# Altium footprint library Con IDC.PcbLib: 105 footprints (part 1 of 7)
Each footprint in its own frame and in the unit in brackets; x right, y up, seen from the top. Pads: shape width x height; smd on the part's side, far side on the other; paste and mask are expansions set on the pad; w line width, h text height; cw(c..) or ccw(c..) is an arc to the next point about the centre after c.
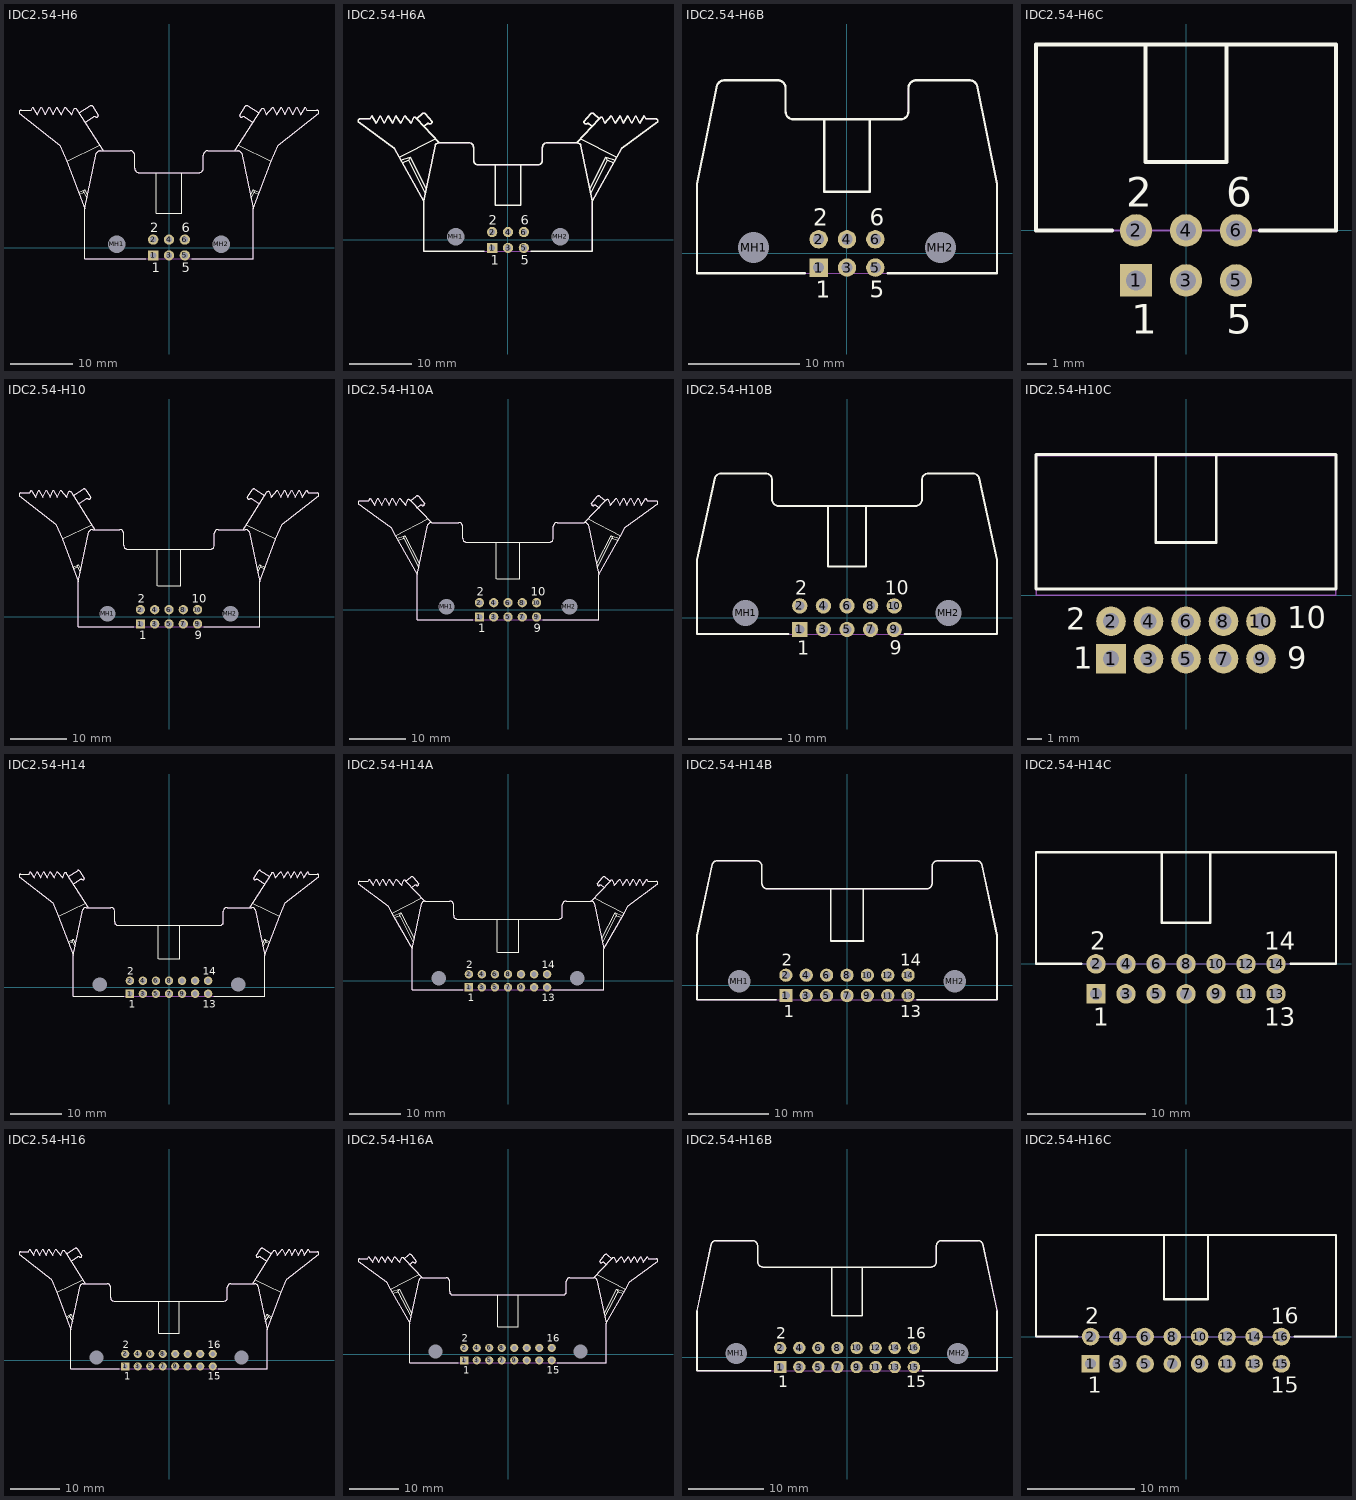
[diagram p0: the footprints below, top view; thin cyan lines are the x and y axes]

## IDC2.54-H6 [mm] "Connector; IDC, Thru-Hole; 6 Position; Right Angle; Pitch 2.54 mm; Body 27.10 x 8.5 x 25.75 mm (LxHxW), Locking levers"
height 8.5
pads (8):
  rect 1.65x1.65 hole 1: 1(-2.54,-1.27)
  round 1.65 hole 1: 2(-2.54,1.27) 3(0,-1.27) 4(0,1.27) 5(2.54,-1.27) 6(2.54,1.27)
  round 2.5 hole 2.8 unplated: MH1(-8.38,0.53) MH2(8.38,0.53)
Top Overlay:
  lines w0.2: -14.52,8.851 -13.555,9.3 ; -14.391,8.563 -13.72,8.877 ; -14.385,21.6 -12.662,22.725 cw(c-12.513,22.387) -12.247,22.644 -11.322,21.245 cw(c-11.642,21.225) -11.694,20.91 ccw(c-11.962,20.595) -12.097,20.985 ; -13.463,20.103 -12.1,20.991 ; -13.193,7.925 -13.72,8.877 ; -13.093,8.378 -13.555,9.3 ; -11.165,16.383 -16.389,13.84 ; -10.594,15.53 -14.728,22.058 ccw(c-15.051,21.956) -15.193,22.265 -15.6,21.301 -16.63,22.501 -17.26,21.301 -18.01,22.501 -18.56,21.301 -19.26,22.501 -19.88,21.301 -20.53,22.501 -21.13,21.301 -21.875,22.501 ; -3.765,-1.77 -13.55,-1.77 -13.55,6.23 ; -2.05,5.53 -2.05,12.03 ; -2.04,5.53 2.06,5.53 ; 2.05,5.534 2.05,12.03 ; 3.65,-1.77 13.55,-1.77 13.55,6.23 ; 10.594,15.53 14.728,22.058 cw(c15.051,21.956) 15.193,22.265 15.6,21.301 16.63,22.501 17.26,21.301 18.01,22.501 18.56,21.301 19.26,22.501 19.88,21.301 20.53,22.501 21.13,21.301 21.875,22.501 ; 11.165,16.383 16.389,13.84 ; 12.097,20.985 ccw(c11.962,20.595) 11.694,20.91 cw(c11.642,21.225) 11.322,21.245 12.247,22.644 cw(c12.513,22.387) 12.662,22.725 14.385,21.6 ; 12.1,20.991 13.463,20.103 ; 13.093,8.378 13.555,9.3 ; 13.193,7.925 13.72,8.877 ; 14.391,8.563 13.72,8.877 ; 14.52,8.851 13.555,9.3 ; -22.13,22.03 -21.875,22.501 ; -22.13,22.03 -21.875,22.501 ; -22.13,22.03 -23.741,22.03 ccw(c-23.741,21.69) -24.05,21.549 -17.515,16.455 -16.389,13.84 ; -16.389,13.84 -13.55,6.23 ; -13.72,8.877 -13.555,9.3 ; -13.55,6.23 -11.647,15.097 cw(c-11,14.83) -11,15.53 -6.21,15.53 cw(c-6.21,14.83) -5.51,14.83 -5.51,12.73 ccw(c-4.81,12.73) -4.81,12.03 4.81,12.03 ccw(c4.81,12.73) 5.51,12.73 5.51,14.83 cw(c6.21,14.83) 6.21,15.53 11,15.53 cw(c11,14.83) 11.647,15.097 13.55,6.23 ; 13.55,6.23 16.389,13.84 ; 13.555,9.3 13.72,8.877 ; 16.389,13.84 17.515,16.455 24.05,21.549 ccw(c23.741,21.69) 23.741,22.03 22.13,22.03 ; 21.875,22.501 22.13,22.03 ; 21.875,22.501 22.13,22.03
  text "2" at -3.04,2.47 h1.5
  text "1" at -2.79,-3.97 h1.5
  text "6" at 2.04,2.47 h1.5
  text "5" at 2.04,-3.97 h1.5
Mechanical 13:
  lines w0.1: -14.385,21.6 -12.662,22.725 cw(c-12.513,22.387) -12.247,22.644 -11.322,21.245 cw(c-11.642,21.225) -11.694,20.91 ccw(c-11.962,20.595) -12.097,20.985 ; -13.463,20.103 -12.1,20.991 ; -10.594,15.53 -14.728,22.058 ccw(c-15.051,21.956) -15.193,22.265 -15.6,21.301 -16.63,22.501 -17.26,21.301 -18.01,22.501 -18.56,21.301 -19.26,22.501 -19.88,21.301 -20.53,22.501 -21.13,21.301 -21.875,22.501 ; 10.594,15.53 14.728,22.058 cw(c15.051,21.956) 15.193,22.265 15.6,21.301 16.63,22.501 17.26,21.301 18.01,22.501 18.56,21.301 19.26,22.501 19.88,21.301 20.53,22.501 21.13,21.301 21.875,22.501 ; 12.097,20.985 ccw(c11.962,20.595) 11.694,20.91 cw(c11.642,21.225) 11.322,21.245 12.247,22.644 cw(c12.513,22.387) 12.662,22.725 14.385,21.6 ; 12.1,20.991 13.463,20.103 ; -22.13,22.03 -23.741,22.03 ccw(c-23.741,21.69) -24.05,21.549 -17.515,16.455 -16.389,13.84 -13.55,6.23 ; -22.13,22.03 -21.875,22.501 ; -22.13,22.03 -21.875,22.501 ; -13.55,6.23 -11.647,15.097 cw(c-11,14.83) -11,15.53 -6.21,15.53 cw(c-6.21,14.83) -5.51,14.83 -5.51,12.73 ccw(c-4.81,12.73) -4.81,12.03 4.81,12.03 ccw(c4.81,12.73) 5.51,12.73 5.51,14.83 cw(c6.21,14.83) 6.21,15.53 11,15.53 cw(c11,14.83) 11.647,15.097 13.55,6.23 ; -13.55,6.23 -13.55,-1.77 13.55,-1.77 13.55,6.23 ; 13.55,6.23 16.389,13.84 17.515,16.455 24.05,21.549 ccw(c23.741,21.69) 23.741,22.03 22.13,22.03 ; 21.875,22.501 22.13,22.03 ; 21.875,22.501 22.13,22.03
3D body: height 8.5, standoff 0, extent -13.451,-1.771 13.451,15.531

## IDC2.54-H6A [mm] "Connector; IDC, Thru-Hole; 6 Position; Right Angle; Pitch 2.54 mm; Body 26.90 x 8.5 x 23.30 mm (LxHxW), Locking levers"
height 8.5
pads (8):
  rect 1.65x1.65 hole 1: 1(-2.54,-1.27)
  round 1.65 hole 1: 2(-2.54,1.27) 3(0,-1.27) 4(0,1.27) 5(2.54,-1.27) 6(2.54,1.27)
  round 2.5 hole 2.8 unplated: MH1(-8.38,0.53) MH2(8.38,0.53)
Top Overlay:
  lines w0.2: -17.119,12.722 -15.631,13.218 ; -16.891,12.377 -15.873,12.716 ; -13.488,18.198 -12.923,18.617 cw(c-12.787,18.227) -12.52,18.542 ccw(c-12.467,18.857) -12.148,18.877 -13.207,20.156 ccw(c-13.473,19.899) -13.622,20.238 -14.628,19.388 ; -13.203,7.442 -15.873,12.716 ; -13.056,8.195 -15.631,13.218 ; -11.57,16.204 -17.389,13.199 ; -10.957,15.533 -14.628,19.388 ; -3.765,-1.77 -13.45,-1.77 -13.45,6.23 ; -2.05,5.53 -2.05,12.03 ; -2.04,5.53 2.06,5.53 ; 2.05,5.534 2.05,12.03 ; 3.65,-1.77 13.45,-1.77 13.45,6.23 ; 10.957,15.533 14.628,19.388 ; 11.57,16.204 17.389,13.199 ; 13.056,8.195 15.631,13.218 ; 13.203,7.442 15.873,12.716 ; 13.488,18.198 12.923,18.617 ccw(c12.787,18.227) 12.52,18.542 cw(c12.467,18.857) 12.148,18.877 13.207,20.156 cw(c13.473,19.899) 13.622,20.238 14.628,19.388 ; 16.891,12.377 15.873,12.716 ; 17.119,12.722 15.631,13.218 ; -22.03,19.359 -23.641,19.359 ccw(c-23.641,19.02) -23.95,18.879 -18.195,14.654 -17.389,13.199 ; -22.03,19.359 -21.774,19.83 ; -22.03,19.359 -21.774,19.83 ; -21.774,19.83 -21.03,18.63 -20.43,19.83 -19.78,18.63 -19.16,19.83 -18.46,18.63 -17.91,19.83 -17.16,18.63 -16.53,19.83 -15.5,18.63 -15.093,19.594 cw(c-14.951,19.285) -14.628,19.388 ; -17.389,13.199 -13.45,6.23 ; -15.873,12.716 -15.631,13.218 ; -13.45,6.23 -11.647,15.097 cw(c-11,14.83) -11,15.53 -6.21,15.53 cw(c-6.21,14.83) -5.51,14.83 -5.51,12.73 ccw(c-4.81,12.73) -4.81,12.03 4.81,12.03 ccw(c4.81,12.73) 5.51,12.73 5.51,14.83 cw(c6.21,14.83) 6.21,15.53 11,15.53 cw(c11,14.83) 11.647,15.097 13.45,6.23 ; 13.45,6.23 17.389,13.199 ; 14.628,19.388 cw(c14.951,19.285) 15.093,19.594 15.5,18.63 16.53,19.83 17.16,18.63 17.91,19.83 18.46,18.63 19.16,19.83 19.78,18.63 20.43,19.83 21.03,18.63 21.775,19.83 ; 15.631,13.218 15.873,12.716 ; 17.389,13.199 18.195,14.654 23.95,18.879 ccw(c23.641,19.02) 23.641,19.359 22.03,19.359 ; 21.775,19.83 22.03,19.359 ; 21.775,19.83 22.03,19.359
  text "2" at -3.04,2.47 h1.5
  text "1" at -2.79,-3.97 h1.5
  text "6" at 2.04,2.47 h1.5
  text "5" at 2.04,-3.97 h1.5
Mechanical 13:
  lines w0.1: -13.488,18.198 -12.923,18.617 cw(c-12.787,18.227) -12.52,18.542 ccw(c-12.467,18.857) -12.148,18.877 -13.207,20.156 ccw(c-13.473,19.899) -13.622,20.238 -14.628,19.388 ; -10.957,15.533 -14.628,19.388 ; 10.957,15.533 14.628,19.388 ; 13.488,18.198 12.923,18.617 ccw(c12.787,18.227) 12.52,18.542 cw(c12.467,18.857) 12.148,18.877 13.207,20.156 cw(c13.473,19.899) 13.622,20.238 14.628,19.388 ; -22.03,19.359 -21.774,19.83 ; -22.03,19.359 -21.774,19.83 ; -22.03,19.359 -23.641,19.359 ccw(c-23.641,19.02) -23.95,18.879 -18.195,14.654 -17.389,13.199 -13.45,6.23 ; -21.774,19.83 -21.03,18.63 -20.43,19.83 -19.78,18.63 -19.16,19.83 -18.46,18.63 -17.91,19.83 -17.16,18.63 -16.53,19.83 -15.5,18.63 -15.093,19.594 cw(c-14.951,19.285) -14.628,19.388 ; -13.45,6.23 -13.45,-1.77 13.45,-1.77 13.45,6.23 ; -13.45,6.23 -11.647,15.097 cw(c-11,14.83) -11,15.53 -6.21,15.53 cw(c-6.21,14.83) -5.51,14.83 -5.51,12.73 ccw(c-4.81,12.73) -4.81,12.03 4.81,12.03 ccw(c4.81,12.73) 5.51,12.73 5.51,14.83 cw(c6.21,14.83) 6.21,15.53 11,15.53 cw(c11,14.83) 11.647,15.097 13.45,6.23 ; 13.45,6.23 17.389,13.199 18.195,14.654 23.95,18.879 ccw(c23.641,19.02) 23.641,19.359 22.03,19.359 ; 14.628,19.388 cw(c14.951,19.285) 15.093,19.594 15.5,18.63 16.53,19.83 17.16,18.63 17.91,19.83 18.46,18.63 19.16,19.83 19.78,18.63 20.43,19.83 21.03,18.63 21.775,19.83 ; 21.775,19.83 22.03,19.359 ; 21.775,19.83 22.03,19.359
3D body: height 8.5, standoff 0, extent -13.451,-1.771 13.451,15.531

## IDC2.54-H6B [mm] "Connector; IDC, Thru-Hole; 6 Position; Right Angle; Pitch 2.54 mm; Body 26.90 x 8.5 x 17.30 mm (LxHxW), Without locking levers"
height 8.5
pads (8):
  rect 1.65x1.65 hole 1: 1(-2.54,-1.27)
  round 1.65 hole 1: 2(-2.54,1.27) 3(0,-1.27) 4(0,1.27) 5(2.54,-1.27) 6(2.54,1.27)
  round 2.5 hole 2.8 unplated: MH1(-8.38,0.53) MH2(8.38,0.53)
Top Overlay:
  lines w0.2: -3.765,-1.77 -13.45,-1.77 -13.45,6.23 -11.647,15.097 cw(c-11,14.83) -11,15.53 -6.21,15.53 cw(c-6.21,14.83) -5.51,14.83 -5.51,12.73 ccw(c-4.81,12.73) -4.81,12.03 4.81,12.03 ccw(c4.81,12.73) 5.51,12.73 5.51,14.83 cw(c6.21,14.83) 6.21,15.53 11,15.53 cw(c11,14.83) 11.647,15.097 13.45,6.23 13.45,-1.77 3.65,-1.77 ; -2.05,5.53 -2.05,12.03 ; -2.04,5.53 2.06,5.53 ; 2.05,5.534 2.05,12.03
  text "5" at 2.04,-3.97 h1.5
  text "6" at 2.04,2.47 h1.5
  text "1" at -2.79,-3.97 h1.5
  text "2" at -3.04,2.47 h1.5
Mechanical 13:
  lines w0.1: -13.45,-1.77 13.45,-1.77 13.45,6.23 11.647,15.097 ccw(c11,14.83) 11,15.53 6.21,15.53 ccw(c6.21,14.83) 5.51,14.83 5.51,12.73 cw(c4.81,12.73) 4.81,12.03 -4.81,12.03 cw(c-4.81,12.73) -5.51,12.73 -5.51,14.83 ccw(c-6.21,14.83) -6.21,15.53 -11,15.53 ccw(c-11,14.83) -11.647,15.097 -13.45,6.23 -13.45,-1.77
3D body: height 8.5, standoff 0, extent -13.451,-1.771 13.451,15.531

## IDC2.54-H6C [mm] "Connector; IDC, Low Profile Male Header, Thru-Hole; 6 Position; Right Angle; Pitch 2.54 mm; Body 15.24 x 8.9 x 9.2 mm (LxWxH)"
height 9.2
pads (6):
  rect 1.65x1.65 hole 1: 1(-2.54,-2.54)
  round 1.65 hole 1: 2(-2.54,0) 3(0,-2.54) 4(0,0) 5(2.54,-2.54) 6(2.54,0)
Top Overlay:
  lines w0.2: -3.765,0 -7.62,0 -7.62,9.45 7.62,9.45 7.62,0 3.765,0 ; -2.05,9.45 -2.05,3.48 2.05,3.48 2.05,9.45
  text "2" at -3.04,1.2 h1.5
  text "1" at -2.79,-5.24 h1.5
  text "6" at 2.04,1.2 h1.5
  text "5" at 2.04,-5.24 h1.5
Mechanical 13:
  lines w0.1: -7.62,0 7.62,0 7.62,9.45 -7.62,9.45 -7.62,0
3D body: height 9.2, standoff 0, extent -7.62,0 7.62,9.45

## IDC2.54-H10 [mm] "Connector; IDC, Thru-Hole; 10 Position; Right Angle; Pitch 2.54 mm; Body 32.30 x 8.5 x 25.75 mm (LxHxW), Locking levers"
height 8.5
pads (12):
  rect 1.65x1.65 hole 1: 1(-5.08,-1.27)
  round 1.65 hole 1: 2(-5.08,1.27) 3(-2.54,-1.27) 4(-2.54,1.27) 5(0,-1.27) 6(0,1.27) 7(2.54,-1.27) 8(2.54,1.27) 9(5.08,-1.27) 10(5.08,1.27)
  round 2.5 hole 2.8 unplated: MH1(-10.92,0.53) MH2(10.92,0.53)
Top Overlay:
  lines w0.2: -17.12,8.851 -16.155,9.3 ; -16.991,8.563 -16.32,8.877 ; -16.985,21.6 -15.262,22.725 cw(c-15.113,22.387) -14.847,22.644 -13.922,21.245 cw(c-14.242,21.225) -14.294,20.91 ccw(c-14.562,20.595) -14.697,20.985 ; -16.063,20.103 -14.7,20.991 ; -15.793,7.925 -16.32,8.877 ; -15.693,8.378 -16.155,9.3 ; -13.765,16.383 -18.989,13.84 ; -13.6,15.53 ccw(c-13.615,14.83) -14.26,15.102 -16.15,6.23 ; -13.54,15.53 -8.765,15.53 cw(c-8.765,14.83) -8.065,14.83 -8.065,12.73 ccw(c-7.365,12.73) -7.365,12.03 7.365,12.03 ccw(c7.365,12.73) 8.065,12.73 8.065,14.83 cw(c8.765,14.83) 8.765,15.53 13.54,15.53 ; -13.194,15.53 -17.328,22.058 ccw(c-17.651,21.956) -17.793,22.265 -18.2,21.301 -19.23,22.501 -19.86,21.301 -20.61,22.501 -21.16,21.301 -21.86,22.501 -22.48,21.301 -23.13,22.501 -23.73,21.301 -24.475,22.501 ; -6.305,-1.77 -16.15,-1.77 -16.15,6.23 ; -2.05,5.53 -2.05,12.03 ; -2.04,5.53 2.06,5.53 ; 2.05,5.534 2.05,12.03 ; 6.19,-1.77 16.15,-1.77 16.15,6.23 ; 13.194,15.53 17.328,22.058 cw(c17.651,21.956) 17.793,22.265 18.2,21.301 19.23,22.501 19.86,21.301 20.61,22.501 21.16,21.301 21.86,22.501 22.48,21.301 23.13,22.501 23.73,21.301 24.475,22.501 ; 13.6,15.53 cw(c13.615,14.83) 14.26,15.102 16.15,6.23 ; 13.765,16.383 18.989,13.84 ; 14.697,20.985 ccw(c14.562,20.595) 14.294,20.91 cw(c14.242,21.225) 13.922,21.245 14.847,22.644 cw(c15.113,22.387) 15.262,22.725 16.985,21.6 ; 14.7,20.991 16.063,20.103 ; 15.693,8.378 16.155,9.3 ; 15.793,7.925 16.32,8.877 ; 16.991,8.563 16.32,8.877 ; 17.12,8.851 16.155,9.3 ; -24.73,22.03 -24.475,22.501 ; -24.73,22.03 -24.475,22.501 ; -24.73,22.03 -26.341,22.03 ccw(c-26.341,21.69) -26.65,21.549 -20.115,16.455 -18.989,13.84 ; -18.989,13.84 -16.15,6.23 ; -16.32,8.877 -16.155,9.3 ; 16.15,6.23 18.989,13.84 ; 16.155,9.3 16.32,8.877 ; 18.989,13.84 20.115,16.455 26.65,21.549 ccw(c26.341,21.69) 26.341,22.03 24.73,22.03 ; 24.475,22.501 24.73,22.03 ; 24.475,22.501 24.73,22.03
  text "2" at -5.58,2.47 h1.5
  text "1" at -5.33,-3.97 h1.5
  text "10" at 4.08,2.47 h1.5
  text "9" at 4.58,-3.97 h1.5
Mechanical 13:
  lines w0.1: -16.985,21.6 -15.262,22.725 cw(c-15.113,22.387) -14.847,22.644 -13.922,21.245 cw(c-14.242,21.225) -14.294,20.91 ccw(c-14.562,20.595) -14.697,20.985 ; -16.063,20.103 -14.7,20.991 ; -13.6,15.53 ccw(c-13.615,14.83) -14.26,15.102 -16.15,6.23 ; -13.54,15.53 -8.765,15.53 cw(c-8.765,14.83) -8.065,14.83 -8.065,12.73 ccw(c-7.365,12.73) -7.365,12.03 7.365,12.03 ccw(c7.365,12.73) 8.065,12.73 8.065,14.83 cw(c8.765,14.83) 8.765,15.53 13.54,15.53 ; -13.194,15.53 -17.328,22.058 ccw(c-17.651,21.956) -17.793,22.265 -18.2,21.301 -19.23,22.501 -19.86,21.301 -20.61,22.501 -21.16,21.301 -21.86,22.501 -22.48,21.301 -23.13,22.501 -23.73,21.301 -24.475,22.501 ; 13.194,15.53 17.328,22.058 cw(c17.651,21.956) 17.793,22.265 18.2,21.301 19.23,22.501 19.86,21.301 20.61,22.501 21.16,21.301 21.86,22.501 22.48,21.301 23.13,22.501 23.73,21.301 24.475,22.501 ; 13.6,15.53 cw(c13.615,14.83) 14.26,15.102 16.15,6.23 ; 14.697,20.985 ccw(c14.562,20.595) 14.294,20.91 cw(c14.242,21.225) 13.922,21.245 14.847,22.644 cw(c15.113,22.387) 15.262,22.725 16.985,21.6 ; 14.7,20.991 16.063,20.103 ; -24.73,22.03 -24.475,22.501 ; -24.73,22.03 -26.341,22.03 ccw(c-26.341,21.69) -26.65,21.549 -20.115,16.455 -18.989,13.84 -16.15,6.23 ; -24.73,22.03 -24.475,22.501 ; -16.15,6.23 -16.15,-1.77 16.15,-1.77 16.15,6.23 ; 16.15,6.23 18.989,13.84 20.115,16.455 26.65,21.549 ccw(c26.341,21.69) 26.341,22.03 24.73,22.03 ; 24.475,22.501 24.73,22.03 ; 24.475,22.501 24.73,22.03
3D body: height 8.5, standoff 0, extent -16.151,-1.771 16.151,15.533

## IDC2.54-H10A [mm] "Connector; IDC, Thru-Hole; 10 Position; Right Angle; Pitch 2.54 mm; Body 32.30 x 8.5 x 23.30 mm (LxHxW), Locking levers"
height 8.5
pads (12):
  rect 1.65x1.65 hole 1: 1(-5.08,-1.27)
  round 1.65 hole 1: 2(-5.08,1.27) 3(-2.54,-1.27) 4(-2.54,1.27) 5(0,-1.27) 6(0,1.27) 7(2.54,-1.27) 8(2.54,1.27) 9(5.08,-1.27) 10(5.08,1.27)
  round 2.5 hole 2.8 unplated: MH1(-10.92,0.53) MH2(10.92,0.53)
Top Overlay:
  lines w0.2: -19.819,12.722 -18.331,13.218 ; -19.591,12.377 -18.573,12.716 ; -16.188,18.198 -15.623,18.617 cw(c-15.487,18.227) -15.22,18.542 ccw(c-15.167,18.857) -14.848,18.877 -15.907,20.156 ccw(c-16.173,19.899) -16.322,20.238 -17.328,19.388 ; -15.903,7.442 -18.573,12.716 ; -15.756,8.195 -18.331,13.218 ; -14.27,16.204 -20.089,13.199 ; -13.657,15.533 -17.328,19.388 ; -13.6,15.53 ccw(c-13.615,14.83) -14.26,15.102 -16.15,6.23 ; -13.54,15.53 -8.765,15.53 cw(c-8.765,14.83) -8.065,14.83 -8.065,12.73 ccw(c-7.365,12.73) -7.365,12.03 7.365,12.03 ccw(c7.365,12.73) 8.065,12.73 8.065,14.83 cw(c8.765,14.83) 8.765,15.53 13.54,15.53 ; -6.305,-1.77 -16.15,-1.77 -16.15,6.23 ; -2.05,5.53 -2.05,12.03 ; -2.04,5.53 2.06,5.53 ; 2.05,5.534 2.05,12.03 ; 6.19,-1.77 16.15,-1.77 16.15,6.23 ; 13.6,15.53 cw(c13.615,14.83) 14.26,15.102 16.15,6.23 ; 13.657,15.533 17.328,19.388 ; 14.27,16.204 20.089,13.199 ; 15.756,8.195 18.331,13.218 ; 15.903,7.442 18.573,12.716 ; 16.188,18.198 15.623,18.617 ccw(c15.487,18.227) 15.22,18.542 cw(c15.167,18.857) 14.848,18.877 15.907,20.156 cw(c16.173,19.899) 16.322,20.238 17.328,19.388 ; 19.591,12.377 18.573,12.716 ; 19.819,12.722 18.331,13.218 ; -24.73,19.359 -26.341,19.359 ccw(c-26.341,19.02) -26.65,18.879 -20.895,14.654 -20.089,13.199 ; -24.73,19.359 -24.474,19.83 ; -24.73,19.359 -24.474,19.83 ; -24.474,19.83 -23.73,18.63 -23.13,19.83 -22.48,18.63 -21.86,19.83 -21.16,18.63 -20.61,19.83 -19.86,18.63 -19.23,19.83 -18.2,18.63 -17.793,19.594 cw(c-17.651,19.285) -17.328,19.388 ; -20.089,13.199 -16.15,6.23 ; -18.573,12.716 -18.331,13.218 ; 16.15,6.23 20.089,13.199 ; 17.328,19.388 cw(c17.651,19.285) 17.793,19.594 18.2,18.63 19.23,19.83 19.86,18.63 20.61,19.83 21.16,18.63 21.86,19.83 22.48,18.63 23.13,19.83 23.73,18.63 24.474,19.83 ; 18.331,13.218 18.573,12.716 ; 20.089,13.199 20.895,14.654 26.65,18.879 ccw(c26.341,19.02) 26.341,19.359 24.73,19.359 ; 24.474,19.83 24.73,19.359 ; 24.474,19.83 24.73,19.359
  text "9" at 4.58,-3.97 h1.5
  text "10" at 4.08,2.47 h1.5
  text "1" at -5.33,-3.97 h1.5
  text "2" at -5.58,2.47 h1.5
Mechanical 13:
  lines w0.1: -16.188,18.198 -15.623,18.617 cw(c-15.487,18.227) -15.22,18.542 ccw(c-15.167,18.857) -14.848,18.877 -15.907,20.156 ccw(c-16.173,19.899) -16.322,20.238 -17.328,19.388 ; -13.657,15.533 -17.328,19.388 ; -13.6,15.53 ccw(c-13.615,14.83) -14.26,15.102 -16.15,6.23 ; -13.54,15.53 -8.765,15.53 cw(c-8.765,14.83) -8.065,14.83 -8.065,12.73 ccw(c-7.365,12.73) -7.365,12.03 7.365,12.03 ccw(c7.365,12.73) 8.065,12.73 8.065,14.83 cw(c8.765,14.83) 8.765,15.53 13.54,15.53 ; 13.6,15.53 cw(c13.615,14.83) 14.26,15.102 16.15,6.23 ; 13.657,15.533 17.328,19.388 ; 16.188,18.198 15.623,18.617 ccw(c15.487,18.227) 15.22,18.542 cw(c15.167,18.857) 14.848,18.877 15.907,20.156 cw(c16.173,19.899) 16.322,20.238 17.328,19.388 ; -24.73,19.359 -24.474,19.83 ; -24.73,19.359 -24.474,19.83 ; -24.73,19.359 -26.341,19.359 ccw(c-26.341,19.02) -26.65,18.879 -20.895,14.654 -20.089,13.199 -16.15,6.23 ; -24.474,19.83 -23.73,18.63 -23.13,19.83 -22.48,18.63 -21.86,19.83 -21.16,18.63 -20.61,19.83 -19.86,18.63 -19.23,19.83 -18.2,18.63 -17.793,19.594 cw(c-17.651,19.285) -17.328,19.388 ; -16.15,6.23 -16.15,-1.77 16.15,-1.77 16.15,6.23 ; 16.15,6.23 20.089,13.199 20.895,14.654 26.65,18.879 ccw(c26.341,19.02) 26.341,19.359 24.73,19.359 ; 17.328,19.388 cw(c17.651,19.285) 17.793,19.594 18.2,18.63 19.23,19.83 19.86,18.63 20.61,19.83 21.16,18.63 21.86,19.83 22.48,18.63 23.13,19.83 23.73,18.63 24.474,19.83 ; 24.474,19.83 24.73,19.359 ; 24.474,19.83 24.73,19.359

## IDC2.54-H10B [mm] "Connector; IDC, Thru-Hole; 10 Position; Right Angle; Pitch 2.54 mm; Body 32.30 x 8.5 x 17.30 mm (LxHxW), Without locking levers"
height 8.5
pads (12):
  rect 1.65x1.65 hole 1: 1(-5.08,-1.27)
  round 1.65 hole 1: 2(-5.08,1.27) 3(-2.54,-1.27) 4(-2.54,1.27) 5(0,-1.27) 6(0,1.27) 7(2.54,-1.27) 8(2.54,1.27) 9(5.08,-1.27) 10(5.08,1.27)
  round 2.5 hole 2.8 unplated: MH1(-10.92,0.53) MH2(10.92,0.53)
Top Overlay:
  lines w0.2: -6.305,-1.77 -16.15,-1.77 -16.15,6.23 -14.2,15.102 cw(c-13.555,14.83) -13.54,15.53 -8.765,15.53 cw(c-8.765,14.83) -8.065,14.83 -8.065,12.73 ccw(c-7.365,12.73) -7.365,12.03 7.365,12.03 ccw(c7.365,12.73) 8.065,12.73 8.065,14.83 cw(c8.765,14.83) 8.765,15.53 13.54,15.53 cw(c13.555,14.83) 14.2,15.102 16.15,6.23 16.15,-1.77 6.19,-1.77 ; -2.05,5.53 -2.05,12.03 ; -2.04,5.53 2.06,5.53 ; 2.05,5.534 2.05,12.03
  text "2" at -5.58,2.47 h1.5
  text "1" at -5.33,-3.97 h1.5
  text "10" at 4.08,2.47 h1.5
  text "9" at 4.58,-3.97 h1.5
Mechanical 13:
  lines w0.1: -16.15,-1.77 -16.15,6.23 -14.2,15.102 cw(c-13.555,14.83) -13.54,15.53 -8.765,15.53 cw(c-8.765,14.83) -8.065,14.83 -8.065,12.73 ccw(c-7.365,12.73) -7.365,12.03 7.365,12.03 ccw(c7.365,12.73) 8.065,12.73 8.065,14.83 cw(c8.765,14.83) 8.765,15.53 13.54,15.53 cw(c13.555,14.83) 14.2,15.102 16.15,6.23 16.15,-1.77 -16.15,-1.77

## IDC2.54-H10C [mm] "Connector; IDC, Low Profile Male Header, Thru-Hole; 10 Position; Right Angle; Pitch 2.54 mm; Body 20.32 x 8.9 x 9.2 mm (LxWxH)"
height 9.2
pads (10):
  rect 2x2 hole 1.1: 1(-5.08,-4.318)
  round 2 hole 1.1: 2(-5.08,-1.778) 3(-2.54,-4.318) 4(-2.54,-1.778) 5(0,-4.318) 6(0,-1.778) 7(2.54,-4.318) 8(2.54,-1.778) 9(5.08,-4.318) 10(5.08,-1.778)
Top Overlay:
  lines w0.2: -2.05,9.526 -2.05,3.556 2.05,3.556 2.05,9.526 ; -10.16,0.406 10.16,0.406 10.16,9.526 -10.16,9.526 -10.16,0.406
  text "9" at 6.866,-4.986 h1.5
  text "10" at 6.866,-2.261 h1.5
  text "1" at -7.624,-4.986 h1.5
  text "2" at -8.124,-2.356 h1.5
Mechanical 13:
  lines w0.1: -10.16,0 10.16,0 10.16,9.45 -10.16,9.45 -10.16,0
3D body "header_awhw10a-0202-t.STEP": height 9, standoff -3.13, extent -10.16,-4.625 10.16,9.559
3D body "sockets_awp10-7241t.STEP": height 9.1, standoff -0.72, extent -8.7,2.906 8.7,134.499

## IDC2.54-H14 [mm] "Connector; IDC, Thru-Hole; 14 Position; Right Angle; Pitch 2.54 mm; Body 37.40 x 8.5 x 25.75 mm (LxHxW), Locking levers"
height 8.5
pads (16):
  rect 1.65x1.65 hole 1: 1(-7.62,-1.27)
  round 1.65 hole 1: 2(-7.62,1.27) 3(-5.08,-1.27) 4(-5.08,1.27) 5(-2.54,-1.27) 6(-2.54,1.27) 7(0,-1.27) 8(0,1.27) 9(2.54,-1.27) 10(2.54,1.27) 11(5.08,-1.27) 12(5.08,1.27) 13(7.62,-1.27) 14(7.62,1.27)
  round 2.5 hole 2.8 unplated: MH1(-13.46,0.53) MH2(13.46,0.53)
Top Overlay:
  lines w0.2: -19.67,8.851 -18.705,9.3 ; -19.541,8.563 -18.87,8.877 ; -19.535,21.6 -17.812,22.725 cw(c-17.663,22.387) -17.397,22.644 -16.472,21.245 cw(c-16.792,21.225) -16.844,20.91 ccw(c-17.112,20.595) -17.247,20.985 ; -18.613,20.103 -17.25,20.991 ; -18.343,7.925 -18.87,8.877 ; -18.243,8.378 -18.705,9.3 ; -16.315,16.383 -21.539,13.84 ; -15.744,15.53 -19.878,22.058 ccw(c-20.201,21.956) -20.343,22.265 -20.75,21.301 -21.78,22.501 -22.41,21.301 -23.16,22.501 -23.71,21.301 -24.41,22.501 -25.03,21.301 -25.68,22.501 -26.28,21.301 -27.025,22.501 ; -8.845,-1.77 -18.7,-1.77 -18.7,6.23 ; -2.05,5.53 -2.05,12.03 ; -2.04,5.53 2.06,5.53 ; 2.05,5.534 2.05,12.03 ; 8.73,-1.77 18.7,-1.77 18.7,6.23 ; 15.744,15.53 19.878,22.058 cw(c20.201,21.956) 20.343,22.265 20.75,21.301 21.78,22.501 22.41,21.301 23.16,22.501 23.71,21.301 24.41,22.501 25.03,21.301 25.68,22.501 26.28,21.301 27.025,22.501 ; 16.315,16.383 21.539,13.84 ; 17.247,20.985 ccw(c17.112,20.595) 16.844,20.91 cw(c16.792,21.225) 16.472,21.245 17.397,22.644 cw(c17.663,22.387) 17.812,22.725 19.535,21.6 ; 17.25,20.991 18.613,20.103 ; 18.243,8.378 18.705,9.3 ; 18.343,7.925 18.87,8.877 ; 19.541,8.563 18.87,8.877 ; 19.67,8.851 18.705,9.3 ; -27.28,22.03 -27.025,22.501 ; -27.28,22.03 -27.025,22.501 ; -27.28,22.03 -28.891,22.03 ccw(c-28.891,21.69) -29.2,21.549 -22.665,16.455 -21.539,13.84 ; -21.539,13.84 -18.7,6.23 ; -18.87,8.877 -18.705,9.3 ; -18.7,6.23 -16.81,15.102 cw(c-16.165,14.83) -16.15,15.53 -11.305,15.53 cw(c-11.305,14.83) -10.605,14.83 -10.605,12.73 ccw(c-9.905,12.73) -9.905,12.03 9.905,12.03 ccw(c9.905,12.73) 10.605,12.73 10.605,14.83 cw(c11.305,14.83) 11.305,15.53 16.15,15.53 cw(c16.165,14.83) 16.81,15.102 18.7,6.23 ; 18.7,6.23 21.539,13.84 ; 18.705,9.3 18.87,8.877 ; 21.539,13.84 22.665,16.455 29.2,21.549 ccw(c28.891,21.69) 28.891,22.03 27.28,22.03 ; 27.025,22.501 27.28,22.03 ; 27.025,22.501 27.28,22.03
  text "13" at 6.62,-3.97 h1.5
  text "14" at 6.62,2.47 h1.5
  text "1" at -7.87,-3.97 h1.5
  text "2" at -8.12,2.47 h1.5
Mechanical 13:
  lines w0.1: -19.535,21.6 -17.812,22.725 cw(c-17.663,22.387) -17.397,22.644 -16.472,21.245 cw(c-16.792,21.225) -16.844,20.91 ccw(c-17.112,20.595) -17.247,20.985 ; -18.613,20.103 -17.25,20.991 ; -15.744,15.53 -19.878,22.058 ccw(c-20.201,21.956) -20.343,22.265 -20.75,21.301 -21.78,22.501 -22.41,21.301 -23.16,22.501 -23.71,21.301 -24.41,22.501 -25.03,21.301 -25.68,22.501 -26.28,21.301 -27.025,22.501 ; 15.744,15.53 19.878,22.058 cw(c20.201,21.956) 20.343,22.265 20.75,21.301 21.78,22.501 22.41,21.301 23.16,22.501 23.71,21.301 24.41,22.501 25.03,21.301 25.68,22.501 26.28,21.301 27.025,22.501 ; 17.247,20.985 ccw(c17.112,20.595) 16.844,20.91 cw(c16.792,21.225) 16.472,21.245 17.397,22.644 cw(c17.663,22.387) 17.812,22.725 19.535,21.6 ; 17.25,20.991 18.613,20.103 ; -27.28,22.03 -27.025,22.501 ; -27.28,22.03 -27.025,22.501 ; -27.28,22.03 -28.891,22.03 ccw(c-28.891,21.69) -29.2,21.549 -22.665,16.455 -21.539,13.84 -18.7,6.23 ; -18.7,6.23 -18.7,-1.77 18.7,-1.77 18.7,6.23 ; -18.7,6.23 -16.81,15.102 cw(c-16.165,14.83) -16.15,15.53 -11.305,15.53 cw(c-11.305,14.83) -10.605,14.83 -10.605,12.73 ccw(c-9.905,12.73) -9.905,12.03 9.905,12.03 ccw(c9.905,12.73) 10.605,12.73 10.605,14.83 cw(c11.305,14.83) 11.305,15.53 16.15,15.53 cw(c16.165,14.83) 16.81,15.102 18.7,6.23 ; 18.7,6.23 21.539,13.84 22.665,16.455 29.2,21.549 ccw(c28.891,21.69) 28.891,22.03 27.28,22.03 ; 27.025,22.501 27.28,22.03 ; 27.025,22.501 27.28,22.03
3D body: height 8.5, standoff 0, extent -18.701,-1.771 18.701,15.533

## IDC2.54-H14A [mm] "Connector; IDC, Thru-Hole; 14 Position; Right Angle; Pitch 2.54 mm; Body 37.40 x 8.5 x 23.30 mm (LxHxW), Locking levers"
height 8.5
pads (16):
  rect 1.65x1.65 hole 1: 1(-7.62,-1.27)
  round 1.65 hole 1: 2(-7.62,1.27) 3(-5.08,-1.27) 4(-5.08,1.27) 5(-2.54,-1.27) 6(-2.54,1.27) 7(0,-1.27) 8(0,1.27) 9(2.54,-1.27) 10(2.54,1.27) 11(5.08,-1.27) 12(5.08,1.27) 13(7.62,-1.27) 14(7.62,1.27)
  round 2.5 hole 2.8 unplated: MH1(-13.46,0.53) MH2(13.46,0.53)
Top Overlay:
  lines w0.2: -22.369,12.722 -20.881,13.218 ; -22.141,12.377 -21.123,12.716 ; -18.738,18.198 -18.173,18.617 cw(c-18.037,18.227) -17.77,18.542 ccw(c-17.717,18.857) -17.398,18.877 -18.457,20.156 ccw(c-18.723,19.899) -18.872,20.238 -19.878,19.388 ; -18.453,7.442 -21.123,12.716 ; -18.306,8.195 -20.881,13.218 ; -16.82,16.204 -22.639,13.199 ; -16.207,15.533 -19.878,19.388 ; -8.845,-1.77 -18.7,-1.77 -18.7,6.23 ; -2.05,5.53 -2.05,12.03 ; -2.04,5.53 2.06,5.53 ; 2.05,5.534 2.05,12.03 ; 8.73,-1.77 18.7,-1.77 18.7,6.23 ; 16.207,15.533 19.878,19.388 ; 16.82,16.204 22.639,13.199 ; 18.306,8.195 20.881,13.218 ; 18.453,7.442 21.123,12.716 ; 18.738,18.198 18.173,18.617 ccw(c18.037,18.227) 17.77,18.542 cw(c17.717,18.857) 17.398,18.877 18.457,20.156 cw(c18.723,19.899) 18.872,20.238 19.878,19.388 ; 22.141,12.377 21.123,12.716 ; 22.369,12.722 20.881,13.218 ; -27.28,19.359 -27.024,19.83 ; -27.28,19.359 -27.024,19.83 ; -27.28,19.359 -28.891,19.359 ccw(c-28.891,19.02) -29.2,18.879 -23.445,14.654 -22.639,13.199 ; -27.024,19.83 -26.28,18.63 -25.68,19.83 -25.03,18.63 -24.41,19.83 -23.71,18.63 -23.16,19.83 -22.41,18.63 -21.78,19.83 -20.75,18.63 -20.343,19.594 cw(c-20.201,19.285) -19.878,19.388 ; -22.639,13.199 -18.7,6.23 ; -21.123,12.716 -20.881,13.218 ; -18.7,6.23 -16.81,15.102 cw(c-16.165,14.83) -16.15,15.53 -11.305,15.53 cw(c-11.305,14.83) -10.605,14.83 -10.605,12.73 ccw(c-9.905,12.73) -9.905,12.03 9.905,12.03 ccw(c9.905,12.73) 10.605,12.73 10.605,14.83 cw(c11.305,14.83) 11.305,15.53 16.15,15.53 cw(c16.165,14.83) 16.81,15.102 18.7,6.23 ; 18.7,6.23 22.639,13.199 ; 19.878,19.388 cw(c20.201,19.285) 20.343,19.594 20.75,18.63 21.78,19.83 22.41,18.63 23.16,19.83 23.71,18.63 24.41,19.83 25.03,18.63 25.68,19.83 26.28,18.63 27.024,19.83 ; 20.881,13.218 21.123,12.716 ; 22.639,13.199 23.445,14.654 29.2,18.879 ccw(c28.891,19.02) 28.891,19.359 27.28,19.359 ; 27.024,19.83 27.28,19.359 ; 27.024,19.83 27.28,19.359
  text "2" at -8.12,2.47 h1.5
  text "1" at -7.87,-3.97 h1.5
  text "14" at 6.62,2.47 h1.5
  text "13" at 6.62,-3.97 h1.5
Mechanical 13:
  lines w0.1: -18.738,18.198 -18.173,18.617 cw(c-18.037,18.227) -17.77,18.542 ccw(c-17.717,18.857) -17.398,18.877 -18.457,20.156 ccw(c-18.723,19.899) -18.872,20.238 -19.878,19.388 ; -16.207,15.533 -19.878,19.388 ; 16.207,15.533 19.878,19.388 ; 18.738,18.198 18.173,18.617 ccw(c18.037,18.227) 17.77,18.542 cw(c17.717,18.857) 17.398,18.877 18.457,20.156 cw(c18.723,19.899) 18.872,20.238 19.878,19.388 ; -27.28,19.359 -27.024,19.83 ; -27.28,19.359 -28.891,19.359 ccw(c-28.891,19.02) -29.2,18.879 -23.445,14.654 -22.639,13.199 -18.7,6.23 ; -27.28,19.359 -27.024,19.83 ; -27.024,19.83 -26.28,18.63 -25.68,19.83 -25.03,18.63 -24.41,19.83 -23.71,18.63 -23.16,19.83 -22.41,18.63 -21.78,19.83 -20.75,18.63 -20.343,19.594 cw(c-20.201,19.285) -19.878,19.388 ; -18.7,6.23 -18.7,-1.77 18.7,-1.77 18.7,6.23 ; -18.7,6.23 -16.81,15.102 cw(c-16.165,14.83) -16.15,15.53 -11.305,15.53 cw(c-11.305,14.83) -10.605,14.83 -10.605,12.73 ccw(c-9.905,12.73) -9.905,12.03 9.905,12.03 ccw(c9.905,12.73) 10.605,12.73 10.605,14.83 cw(c11.305,14.83) 11.305,15.53 16.15,15.53 cw(c16.165,14.83) 16.81,15.102 18.7,6.23 ; 18.7,6.23 22.639,13.199 23.445,14.654 29.2,18.879 ccw(c28.891,19.02) 28.891,19.359 27.28,19.359 ; 19.878,19.388 cw(c20.201,19.285) 20.343,19.594 20.75,18.63 21.78,19.83 22.41,18.63 23.16,19.83 23.71,18.63 24.41,19.83 25.03,18.63 25.68,19.83 26.28,18.63 27.024,19.83 ; 27.024,19.83 27.28,19.359 ; 27.024,19.83 27.28,19.359
3D body: height 8.5, standoff 0, extent -18.701,-1.771 18.701,15.533

## IDC2.54-H14B [mm] "Connector; IDC, Thru-Hole; 14 Position; Right Angle; Pitch 2.54 mm; Body 37.40 x 8.5 x 17.30 mm (LxHxW), Without locking levers"
height 8.5
pads (16):
  rect 1.65x1.65 hole 1: 1(-7.62,-1.27)
  round 1.65 hole 1: 2(-7.62,1.27) 3(-5.08,-1.27) 4(-5.08,1.27) 5(-2.54,-1.27) 6(-2.54,1.27) 7(0,-1.27) 8(0,1.27) 9(2.54,-1.27) 10(2.54,1.27) 11(5.08,-1.27) 12(5.08,1.27) 13(7.62,-1.27) 14(7.62,1.27)
  round 2.5 hole 2.8 unplated: MH1(-13.46,0.53) MH2(13.46,0.53)
Top Overlay:
  lines w0.2: -8.845,-1.77 -18.7,-1.77 -18.7,6.23 -16.81,15.102 cw(c-16.165,14.83) -16.15,15.53 -11.305,15.53 cw(c-11.305,14.83) -10.605,14.83 -10.605,12.73 ccw(c-9.905,12.73) -9.905,12.03 9.905,12.03 ccw(c9.905,12.73) 10.605,12.73 10.605,14.83 cw(c11.305,14.83) 11.305,15.53 16.15,15.53 cw(c16.165,14.83) 16.81,15.102 18.7,6.23 18.7,-1.77 8.73,-1.77 ; -2.05,5.53 -2.05,12.03 ; -2.04,5.53 2.06,5.53 ; 2.05,5.534 2.05,12.03
  text "13" at 6.62,-3.97 h1.5
  text "14" at 6.62,2.47 h1.5
  text "1" at -7.87,-3.97 h1.5
  text "2" at -8.12,2.47 h1.5
Mechanical 13:
  lines w0.1: -18.7,-1.77 -18.7,6.23 -16.81,15.102 cw(c-16.165,14.83) -16.15,15.53 -11.305,15.53 cw(c-11.305,14.83) -10.605,14.83 -10.605,12.73 ccw(c-9.905,12.73) -9.905,12.03 9.905,12.03 ccw(c9.905,12.73) 10.605,12.73 10.605,14.83 cw(c11.305,14.83) 11.305,15.53 16.15,15.53 cw(c16.165,14.83) 16.81,15.102 18.7,6.23 18.7,-1.77 -18.7,-1.77
3D body: height 8.5, standoff 0, extent -18.701,-1.771 18.701,15.533

## IDC2.54-H14C [mm] "Connector; IDC, Low Profile Male Header, Thru-Hole; 14 Position; Right Angle; Pitch 2.54 mm; Body 25.40 x 8.9 x 9.2 mm (LxWxH)"
height 9.2
pads (14):
  rect 1.65x1.65 hole 1: 1(-7.62,-2.54)
  round 1.65 hole 1: 2(-7.62,0) 3(-5.08,-2.54) 4(-5.08,0) 5(-2.54,-2.54) 6(-2.54,0) 7(0,-2.54) 8(0,0) 9(2.54,-2.54) 10(2.54,0) 11(5.08,-2.54) 12(5.08,0) 13(7.62,-2.54) 14(7.62,0)
Top Overlay:
  lines w0.2: -8.845,0 -12.7,0 -12.7,9.45 12.7,9.45 12.7,0 8.845,0 ; -2.05,9.45 -2.05,3.48 2.05,3.48 2.05,9.45
  text "13" at 6.62,-5.24 h1.5
  text "14" at 6.62,1.2 h1.5
  text "1" at -7.87,-5.24 h1.5
  text "2" at -8.12,1.2 h1.5
Mechanical 13:
  lines w0.1: -12.7,0 12.7,0 12.7,9.45 -12.7,9.45 -12.7,0
3D body: height 9.2, standoff 0, extent -12.7,0 12.7,9.45

## IDC2.54-H16 [mm] "Connector; IDC, Thru-Hole; 16 Position; Right Angle; Pitch 2.54 mm; Body 39.90 x 8.5 x 25.75 mm (LxHxW), Locking levers"
height 8.5
pads (18):
  rect 1.65x1.65 hole 1: 1(-8.89,-1.27)
  round 1.65 hole 1: 2(-8.89,1.27) 3(-6.35,-1.27) 4(-6.35,1.27) 5(-3.81,-1.27) 6(-3.81,1.27) 7(-1.27,-1.27) 8(-1.27,1.27) 9(1.27,-1.27) 10(1.27,1.27) 11(3.81,-1.27) 12(3.81,1.27) 13(6.35,-1.27) 14(6.35,1.27) 15(8.89,-1.27) 16(8.89,1.27)
  round 2.5 hole 2.8 unplated: MH1(-14.73,0.53) MH2(14.73,0.53)
Top Overlay:
  lines w0.2: -20.92,8.851 -19.955,9.3 ; -20.791,8.563 -20.12,8.877 ; -20.785,21.6 -19.062,22.725 cw(c-18.913,22.387) -18.647,22.644 -17.722,21.245 cw(c-18.042,21.225) -18.094,20.91 ccw(c-18.362,20.595) -18.497,20.985 ; -19.863,20.103 -18.5,20.991 ; -19.593,7.925 -20.12,8.877 ; -19.493,8.378 -19.955,9.3 ; -17.565,16.383 -22.789,13.84 ; -16.994,15.53 -21.128,22.058 ccw(c-21.451,21.956) -21.593,22.265 -22,21.301 -23.03,22.501 -23.66,21.301 -24.41,22.501 -24.96,21.301 -25.66,22.501 -26.28,21.301 -26.93,22.501 -27.53,21.301 -28.275,22.501 ; -10.115,-1.77 -19.95,-1.77 -19.95,6.23 ; -2.05,5.53 -2.05,12.03 ; -2.04,5.53 2.06,5.53 ; 2.05,5.534 2.05,12.03 ; 10,-1.77 19.95,-1.77 19.95,6.23 ; 16.994,15.53 21.128,22.058 cw(c21.451,21.956) 21.593,22.265 22,21.301 23.03,22.501 23.66,21.301 24.41,22.501 24.96,21.301 25.66,22.501 26.28,21.301 26.93,22.501 27.53,21.301 28.275,22.501 ; 17.565,16.383 22.789,13.84 ; 18.497,20.985 ccw(c18.362,20.595) 18.094,20.91 cw(c18.042,21.225) 17.722,21.245 18.647,22.644 cw(c18.913,22.387) 19.062,22.725 20.785,21.6 ; 18.5,20.991 19.863,20.103 ; 19.493,8.378 19.955,9.3 ; 19.593,7.925 20.12,8.877 ; 20.791,8.563 20.12,8.877 ; 20.92,8.851 19.955,9.3 ; -28.53,22.03 -30.141,22.03 ccw(c-30.141,21.69) -30.45,21.549 -23.915,16.455 -22.789,13.84 ; -28.53,22.03 -28.275,22.501 ; -28.53,22.03 -28.275,22.501 ; -22.789,13.84 -19.95,6.23 ; -20.12,8.877 -19.955,9.3 ; -19.95,6.23 -18.06,15.102 cw(c-17.415,14.83) -17.4,15.53 -12.575,15.53 cw(c-12.575,14.83) -11.875,14.83 -11.875,12.73 ccw(c-11.175,12.73) -11.175,12.03 11.175,12.03 ccw(c11.175,12.73) 11.875,12.73 11.875,14.83 cw(c12.575,14.83) 12.575,15.53 17.4,15.53 cw(c17.415,14.83) 18.06,15.102 19.95,6.23 ; 19.95,6.23 22.789,13.84 ; 19.955,9.3 20.12,8.877 ; 22.789,13.84 23.915,16.455 30.45,21.549 ccw(c30.141,21.69) 30.141,22.03 28.53,22.03 ; 28.275,22.501 28.53,22.03 ; 28.275,22.501 28.53,22.03
  text "2" at -9.39,2.47 h1.5
  text "1" at -9.14,-3.97 h1.5
  text "16" at 7.89,2.47 h1.5
  text "15" at 7.89,-3.97 h1.5
Mechanical 13:
  lines w0.1: -20.785,21.6 -19.062,22.725 cw(c-18.913,22.387) -18.647,22.644 -17.722,21.245 cw(c-18.042,21.225) -18.094,20.91 ccw(c-18.362,20.595) -18.497,20.985 ; -19.863,20.103 -18.5,20.991 ; -16.994,15.53 -21.128,22.058 ccw(c-21.451,21.956) -21.593,22.265 -22,21.301 -23.03,22.501 -23.66,21.301 -24.41,22.501 -24.96,21.301 -25.66,22.501 -26.28,21.301 -26.93,22.501 -27.53,21.301 -28.275,22.501 ; 16.994,15.53 21.128,22.058 cw(c21.451,21.956) 21.593,22.265 22,21.301 23.03,22.501 23.66,21.301 24.41,22.501 24.96,21.301 25.66,22.501 26.28,21.301 26.93,22.501 27.53,21.301 28.275,22.501 ; 18.497,20.985 ccw(c18.362,20.595) 18.094,20.91 cw(c18.042,21.225) 17.722,21.245 18.647,22.644 cw(c18.913,22.387) 19.062,22.725 20.785,21.6 ; 18.5,20.991 19.863,20.103 ; -28.53,22.03 -28.275,22.501 ; -28.53,22.03 -28.275,22.501 ; -28.53,22.03 -30.141,22.03 ccw(c-30.141,21.69) -30.45,21.549 -23.915,16.455 -22.789,13.84 -19.95,6.23 ; -19.95,6.23 -18.06,15.102 cw(c-17.415,14.83) -17.4,15.53 -12.575,15.53 cw(c-12.575,14.83) -11.875,14.83 -11.875,12.73 ccw(c-11.175,12.73) -11.175,12.03 11.175,12.03 ccw(c11.175,12.73) 11.875,12.73 11.875,14.83 cw(c12.575,14.83) 12.575,15.53 17.4,15.53 cw(c17.415,14.83) 18.06,15.102 19.95,6.23 ; -19.95,6.23 -19.95,-1.77 19.95,-1.77 19.95,6.23 ; 19.95,6.23 22.789,13.84 23.915,16.455 30.45,21.549 ccw(c30.141,21.69) 30.141,22.03 28.53,22.03 ; 28.275,22.501 28.53,22.03 ; 28.275,22.501 28.53,22.03
3D body: height 8.5, standoff 0, extent -19.951,-1.771 19.951,15.533

## IDC2.54-H16A [mm] "Connector; IDC, Thru-Hole; 16 Position; Right Angle; Pitch 2.54 mm; Body 39.90 x 8.5 x 23.30 mm (LxHxW), Locking levers"
height 8.5
pads (18):
  rect 1.65x1.65 hole 1: 1(-8.89,-1.27)
  round 1.65 hole 1: 2(-8.89,1.27) 3(-6.35,-1.27) 4(-6.35,1.27) 5(-3.81,-1.27) 6(-3.81,1.27) 7(-1.27,-1.27) 8(-1.27,1.27) 9(1.27,-1.27) 10(1.27,1.27) 11(3.81,-1.27) 12(3.81,1.27) 13(6.35,-1.27) 14(6.35,1.27) 15(8.89,-1.27) 16(8.89,1.27)
  round 2.5 hole 2.8 unplated: MH1(-14.73,0.53) MH2(14.73,0.53)
Top Overlay:
  lines w0.2: -23.619,12.722 -22.131,13.218 ; -23.391,12.377 -22.373,12.716 ; -19.988,18.198 -19.423,18.617 cw(c-19.287,18.227) -19.02,18.542 ccw(c-18.967,18.857) -18.648,18.877 -19.707,20.156 ccw(c-19.973,19.899) -20.122,20.238 -21.128,19.388 ; -19.703,7.442 -22.373,12.716 ; -19.556,8.195 -22.131,13.218 ; -18.07,16.204 -23.889,13.199 ; -17.46,15.53 -12.575,15.53 cw(c-12.575,14.83) -11.875,14.83 -11.875,12.73 ccw(c-11.175,12.73) -11.175,12.03 11.175,12.03 ccw(c11.175,12.73) 11.875,12.73 11.875,14.83 cw(c12.575,14.83) 12.575,15.53 17.46,15.53 ; -17.457,15.533 -21.128,19.388 ; -17.4,15.53 ccw(c-17.415,14.83) -18.06,15.102 -19.95,6.23 ; -10.115,-1.77 -19.95,-1.77 -19.95,6.23 ; -2.05,5.53 -2.05,12.03 ; -2.04,5.53 2.06,5.53 ; 2.05,5.534 2.05,12.03 ; 10,-1.77 19.95,-1.77 19.95,6.23 ; 17.4,15.53 cw(c17.415,14.83) 18.06,15.102 19.95,6.23 ; 17.457,15.533 21.128,19.388 ; 18.07,16.204 23.889,13.199 ; 19.556,8.195 22.131,13.218 ; 19.703,7.442 22.373,12.716 ; 19.988,18.198 19.423,18.617 ccw(c19.287,18.227) 19.02,18.542 cw(c18.967,18.857) 18.648,18.877 19.707,20.156 cw(c19.973,19.899) 20.122,20.238 21.128,19.388 ; 23.391,12.377 22.373,12.716 ; 23.619,12.722 22.131,13.218 ; -28.53,19.359 -30.141,19.359 ccw(c-30.141,19.02) -30.45,18.879 -24.695,14.654 -23.889,13.199 ; -28.53,19.359 -28.274,19.83 ; -28.53,19.359 -28.274,19.83 ; -28.274,19.83 -27.53,18.63 -26.93,19.83 -26.28,18.63 -25.66,19.83 -24.96,18.63 -24.41,19.83 -23.66,18.63 -23.03,19.83 -22,18.63 -21.593,19.594 cw(c-21.451,19.285) -21.128,19.388 ; -23.889,13.199 -19.95,6.23 ; -22.373,12.716 -22.131,13.218 ; 19.95,6.23 23.889,13.199 ; 21.128,19.388 cw(c21.451,19.285) 21.593,19.594 22,18.63 23.03,19.83 23.66,18.63 24.41,19.83 24.96,18.63 25.66,19.83 26.28,18.63 26.93,19.83 27.53,18.63 28.274,19.83 ; 22.131,13.218 22.373,12.716 ; 23.889,13.199 24.695,14.654 30.45,18.879 ccw(c30.141,19.02) 30.141,19.359 28.53,19.359 ; 28.274,19.83 28.53,19.359 ; 28.274,19.83 28.53,19.359
  text "15" at 7.89,-3.97 h1.5
  text "16" at 7.89,2.47 h1.5
  text "1" at -9.14,-3.97 h1.5
  text "2" at -9.39,2.47 h1.5
Mechanical 13:
  lines w0.1: -19.988,18.198 -19.423,18.617 cw(c-19.287,18.227) -19.02,18.542 ccw(c-18.967,18.857) -18.648,18.877 -19.707,20.156 ccw(c-19.973,19.899) -20.122,20.238 -21.128,19.388 ; -17.46,15.53 -12.575,15.53 cw(c-12.575,14.83) -11.875,14.83 -11.875,12.73 ccw(c-11.175,12.73) -11.175,12.03 11.175,12.03 ccw(c11.175,12.73) 11.875,12.73 11.875,14.83 cw(c12.575,14.83) 12.575,15.53 17.46,15.53 ; -17.457,15.533 -21.128,19.388 ; -17.4,15.53 ccw(c-17.415,14.83) -18.06,15.102 -19.95,6.23 ; 17.4,15.53 cw(c17.415,14.83) 18.06,15.102 19.95,6.23 ; 17.457,15.533 21.128,19.388 ; 19.988,18.198 19.423,18.617 ccw(c19.287,18.227) 19.02,18.542 cw(c18.967,18.857) 18.648,18.877 19.707,20.156 cw(c19.973,19.899) 20.122,20.238 21.128,19.388 ; -28.53,19.359 -30.141,19.359 ccw(c-30.141,19.02) -30.45,18.879 -24.695,14.654 -23.889,13.199 -19.95,6.23 ; -28.53,19.359 -28.274,19.83 ; -28.53,19.359 -28.274,19.83 ; -28.274,19.83 -27.53,18.63 -26.93,19.83 -26.28,18.63 -25.66,19.83 -24.96,18.63 -24.41,19.83 -23.66,18.63 -23.03,19.83 -22,18.63 -21.593,19.594 cw(c-21.451,19.285) -21.128,19.388 ; -19.95,6.23 -19.95,-1.77 19.95,-1.77 19.95,6.23 ; 19.95,6.23 23.889,13.199 24.695,14.654 30.45,18.879 ccw(c30.141,19.02) 30.141,19.359 28.53,19.359 ; 21.128,19.388 cw(c21.451,19.285) 21.593,19.594 22,18.63 23.03,19.83 23.66,18.63 24.41,19.83 24.96,18.63 25.66,19.83 26.28,18.63 26.93,19.83 27.53,18.63 28.274,19.83 ; 28.274,19.83 28.53,19.359 ; 28.274,19.83 28.53,19.359
3D body: height 8.5, standoff 0, extent -19.951,-1.771 19.951,15.533

## IDC2.54-H16B [mm] "Connector; IDC, Thru-Hole; 16 Position; Right Angle; Pitch 2.54 mm; Body 39.90 x 8.5 x 17.30 mm (LxHxW), Without locking levers"
height 8.5
pads (18):
  rect 1.65x1.65 hole 1: 1(-8.89,-1.27)
  round 1.65 hole 1: 2(-8.89,1.27) 3(-6.35,-1.27) 4(-6.35,1.27) 5(-3.81,-1.27) 6(-3.81,1.27) 7(-1.27,-1.27) 8(-1.27,1.27) 9(1.27,-1.27) 10(1.27,1.27) 11(3.81,-1.27) 12(3.81,1.27) 13(6.35,-1.27) 14(6.35,1.27) 15(8.89,-1.27) 16(8.89,1.27)
  round 2.5 hole 2.8 unplated: MH1(-14.73,0.53) MH2(14.73,0.53)
Top Overlay:
  lines w0.2: -10.115,-1.77 -19.95,-1.77 -19.95,6.23 -18.06,15.102 cw(c-17.415,14.83) -17.4,15.53 -12.575,15.53 cw(c-12.575,14.83) -11.875,14.83 -11.875,12.73 ccw(c-11.175,12.73) -11.175,12.03 11.175,12.03 ccw(c11.175,12.73) 11.875,12.73 11.875,14.83 cw(c12.575,14.83) 12.575,15.53 17.4,15.53 cw(c17.415,14.83) 18.06,15.102 19.95,6.23 19.95,-1.77 10,-1.77 ; -2.05,5.53 -2.05,12.03 ; -2.04,5.53 2.06,5.53 ; 2.05,5.534 2.05,12.03
  text "15" at 7.89,-3.97 h1.5
  text "16" at 7.89,2.47 h1.5
  text "1" at -9.14,-3.97 h1.5
  text "2" at -9.39,2.47 h1.5
Mechanical 13:
  lines w0.1: -19.95,-1.77 -19.95,6.23 -18.06,15.102 cw(c-17.415,14.83) -17.4,15.53 -12.575,15.53 cw(c-12.575,14.83) -11.875,14.83 -11.875,12.73 ccw(c-11.175,12.73) -11.175,12.03 11.175,12.03 ccw(c11.175,12.73) 11.875,12.73 11.875,14.83 cw(c12.575,14.83) 12.575,15.53 17.4,15.53 cw(c17.415,14.83) 18.06,15.102 19.95,6.23 19.95,-1.77 -19.95,-1.77
3D body: height 8.5, standoff 0, extent -19.951,-1.771 19.951,15.533

## IDC2.54-H16C [mm] "Connector; IDC, Low Profile Male Header, Thru-Hole; 16 Position; Right Angle; Pitch 2.54 mm; Body 27.94 x 8.9 x 9.2 mm (LxWxH)"
height 9.2
pads (16):
  rect 1.65x1.65 hole 1: 1(-8.89,-2.54)
  round 1.65 hole 1: 2(-8.89,0) 3(-6.35,-2.54) 4(-6.35,0) 5(-3.81,-2.54) 6(-3.81,0) 7(-1.27,-2.54) 8(-1.27,0) 9(1.27,-2.54) 10(1.27,0) 11(3.81,-2.54) 12(3.81,0) 13(6.35,-2.54) 14(6.35,0) 15(8.89,-2.54) 16(8.89,0)
Top Overlay:
  lines w0.2: -10.115,0 -13.97,0 -13.97,9.45 13.97,9.45 13.97,0 10.115,0 ; -2.05,9.45 -2.05,3.48 2.05,3.48 2.05,9.45
  text "2" at -9.39,1.2 h1.5
  text "1" at -9.14,-5.24 h1.5
  text "16" at 7.89,1.2 h1.5
  text "15" at 7.89,-5.24 h1.5
Mechanical 13:
  lines w0.1: -13.97,0 -13.97,9.45 13.97,9.45 13.97,0 -13.97,0
3D body: height 9.2, standoff 0, extent -13.97,0 13.97,9.45